# Altium footprint library PF_Pcblib.PcbLib: 10 footprints
Each footprint in its own frame and in the unit in brackets; x right, y up, seen from the top. Pads: shape width x height; smd on the part's side, far side on the other; paste and mask are expansions set on the pad; w line width, h text height; cw(c..) or ccw(c..) is an arc to the next point about the centre after c.
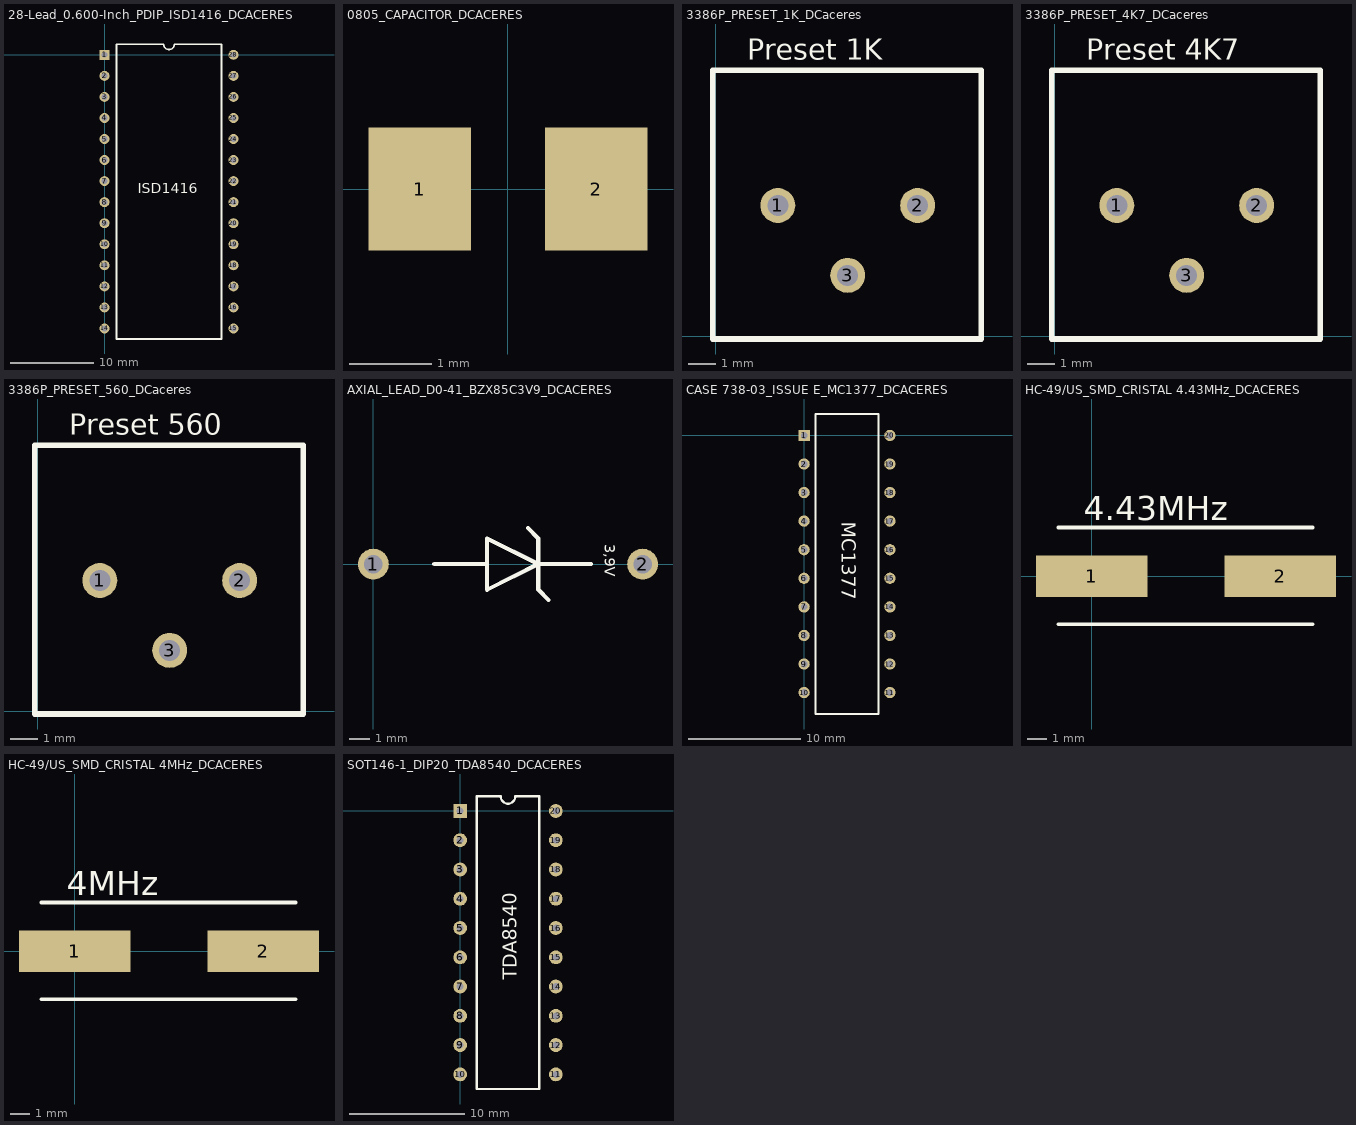
[diagram p0: the footprints below, top view; thin cyan lines are the x and y axes]

## 28-Lead_0.600-Inch_PDIP_ISD1416_DCACERES [mm]
pads (28):
  rect 1.2x1.2 hole 0.7: 1(0,0)
  round 1.2 hole 0.7: 2(0,-2.54) 3(0,-5.08) 4(0,-7.62) 5(0,-10.16) 6(0,-12.7) 7(0,-15.24) 8(0,-17.78) 9(0,-20.32) 10(0,-22.86) 11(0,-25.4) 12(0,-27.94) 13(0,-30.48) 14(0,-33.02) 15(15.55,-33.02) 16(15.55,-30.48) 17(15.55,-27.94) 18(15.55,-25.4) 19(15.55,-22.86) 20(15.55,-20.32) 21(15.55,-17.78) 22(15.55,-15.24) 23(15.55,-12.7) 24(15.55,-10.16) 25(15.55,-7.62) 26(15.55,-5.08) 27(15.55,-2.54) 28(15.55,0)
Top Overlay:
  lines w0.2: 1.435,-34.29 1.435,1.27 7.14,1.27 ccw(c7.775,1.27) 8.41,1.27 14.115,1.27 14.115,-34.29 1.435,-34.29
  text "ISD1416" at 4.013,-16.713 h1.22
3D body "AT28C256-15PU.stp": height 5.83, standoff -2.5, extent -0.146,-35.02 15.691,2

## 0805_CAPACITOR_DCACERES [mm]
height 0.55
pads (2):
  rect 1.25x1.5 smd: 1(-1.075,0) 2(1.075,0)
3D body "Chip2PinSM127P600-8N.step": height 0.55, standoff 0, extent -1.05,-0.7 1.05,0.7

## 3386P_PRESET_1K_DCaceres [mil]
pads (3):
  round 50 hole 30: 1(89,187) 2(289,187) 3(189,87)
Top Overlay:
  lines w7.87: -4,-4 -4,380 380,380 380,-4 -4,-4
  text "Preset 1K" at 45,395 h30
3D body "3386P-1-472LF.stp": height 200, standoff -225.2, extent 0.4,0.04 375.6,375.24

## 3386P_PRESET_4K7_DCaceres [mil]
pads (3):
  round 50 hole 30: 1(89,187) 2(289,187) 3(189,87)
Top Overlay:
  lines w7.87: -4,-4 -4,380 380,380 380,-4 -4,-4
  text "Preset 4K7" at 45,395 h30
3D body "3386P-1-472LF.stp": height 200, standoff -225.2, extent 0.4,0.04 375.6,375.24

## 3386P_PRESET_560_DCaceres [mil]
pads (3):
  round 50 hole 30: 1(89,187) 2(289,187) 3(189,87)
Top Overlay:
  lines w7.87: -4,-4 -4,380 380,380 380,-4 -4,-4
  text "Preset 560" at 45,395 h30
3D body "3386P-1-472LF.stp": height 200, standoff -225.2, extent 0.4,0.04 375.6,375.24

## AXIAL_LEAD_D0-41_BZX85C3V9_DCACERES [mm]
pads (2):
  round 1.5 hole 0.9: 1(0,0) 2(13.106,0)
Top Overlay:
  lines w0.2: 2.962,0 5.537,0 ; 7.518,1.758 8.026,1.25 8.026,-1.239 8.534,-1.747 ; 10.601,0.005 8.026,0.005 ; 8.026,0.005 5.537,-1.25 5.537,1.25 8.027,0.005
  text "3,9V" at 11.269,0.965 h0.51
3D body "1N4760A-TR.stp": height 2.6, standoff -2.6, extent -0.432,-1.286 13.528,1.295

## CASE 738-03_ISSUE E_MC1377_DCACERES [mm]
pads (20):
  rect 1x1 hole 0.6: 1(0,0)
  round 1 hole 0.6: 2(0,-2.54) 3(0,-5.08) 4(0,-7.62) 5(0,-10.16) 6(0,-12.7) 7(0,-15.24) 8(0,-17.78) 9(0,-20.32) 10(0,-22.86) 11(7.62,-22.86) 12(7.62,-20.32) 13(7.62,-17.78) 14(7.62,-15.24) 15(7.62,-12.7) 16(7.62,-10.16) 17(7.62,-7.62) 18(7.62,-5.08) 19(7.62,-2.54) 20(7.62,0)
Top Overlay:
  lines w0.2: 1.016,-24.765 6.604,-24.765 6.604,1.905 1.016,1.905 1.016,-24.765
  text "MC1377" at 3.327,-7.671 h1.22
3D body: height 6.6, standoff 1.01, extent 0.51,-25.03 7.11,2.17

## HC-49/US_SMD_CRISTAL 4.43MHz_DCACERES [mm]
pads (2):
  rect 5.6x2.1 smd: 1(0,0) 2(9.5,0)
Top Overlay:
  lines w0.2: -1.676,-2.413 11.125,-2.413 ; -1.676,2.464 11.125,2.464
  text "4.43MHz" at -0.406,2.819 h1.22
3D body "ABLS-4.000MHZ-K4T.stp": height 4.2, standoff 0, extent -1.6,-2.35 11.1,2.35

## HC-49/US_SMD_CRISTAL 4MHz_DCACERES [mm]
pads (2):
  rect 5.6x2.1 smd: 1(0,0) 2(9.5,0)
Top Overlay:
  lines w0.2: -1.676,-2.413 11.125,-2.413 ; -1.676,2.464 11.125,2.464
  text "4MHz" at -0.406,2.819 h1.22
3D body "ABLS-4.000MHZ-K4T.stp": height 4.2, standoff 0, extent -1.6,-2.35 11.1,2.35

## SOT146-1_DIP20_TDA8540_DCACERES [mm]
pads (20):
  rect 1.2x1.2 hole 0.6: 1(0,0)
  round 1.2 hole 0.6: 2(0,-2.54) 3(0,-5.08) 4(0,-7.62) 5(0,-10.16) 6(0,-12.7) 7(0,-15.24) 8(0,-17.78) 9(0,-20.32) 10(0,-22.86) 11(8.3,-22.86) 12(8.3,-20.32) 13(8.3,-17.78) 14(8.3,-15.24) 15(8.3,-12.7) 16(8.3,-10.16) 17(8.3,-7.62) 18(8.3,-5.08) 19(8.3,-2.54) 20(8.3,0)
Top Overlay:
  lines w0.2: 1.435,-24.13 6.865,-24.13 6.865,1.27 4.785,1.27 cw(c4.15,1.27) 3.515,1.27 1.435,1.27 1.435,-24.13
  text "TDA8540" at 4.902,-14.63 h1.22
3D body "74HC240N.stp": height 4.14, standoff -3.38, extent -0.449,-24.805 8.78,1.895